# EAGLE library part USB_MICRO-B_MOLEX (library df4iah_connector)
USB Type Micro-B Connector Male/female and PTH/SMT variants Molex Products: Micro-USB B Receptacle, Bottom Mount, Surface Mount, with Solder Tabs, Lead-Free <http://www.molex.com/molex/products/datasheet.jsp?part=active/1050170001_IO_CONNECTORS.xml>
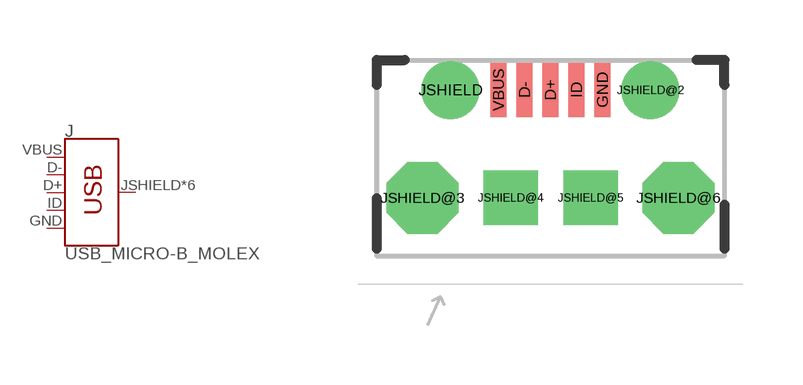
[diagram p16: symbol with the pads of USB-B-MICRO-SMD_MOLEX-105017-0001; footprint USB-B-MICRO-SMD_MOLEX-105017-0001]

Designator prefix J

## USB_MICRO-B_MOLEX  [USB-B-MICRO-SMD_MOLEX-105017-0001]
D+  J_D+
D-  J_D-
GND  GND  pas
ID  J_ID
JSHIELD  SHIELD  pas
JSHIELD@2  SHIELD  pas
JSHIELD@3  SHIELD  pas
JSHIELD@4  SHIELD  pas
JSHIELD@5  SHIELD  pas
JSHIELD@6  SHIELD  pas
VBUS  J_VUSB  pwr

## Footprint USB-B-MICRO-SMD_MOLEX-105017-0001 (pad centres in mm)
USB - microB SMD Specifications: Pin count:5 Datasheet referenced for footprint <http://www.molex.com/pdm_docs/sd/1050170001_sd.pdf> Example device(s): USB_MICRO-B
smd 0.4 x 1.35: D+ 0,4.15; D- -0.65,4.15; GND 1.3,4.15; ID 0.65,4.15; VBUS -1.3,4.15
drill 0.85 pad 1.45: JSHIELD -2.5,4.15; JSHIELD@2 2.5,4.15
drill 0.85 pad 1.8 octagon: JSHIELD@3 -3.2,1.45; JSHIELD@6 3.2,1.45
drill 0.85 square: JSHIELD@4 -1,1.45; JSHIELD@5 1,1.45